# EAGLE library part HMC218BMS8GE (library HMC218BMSGE)
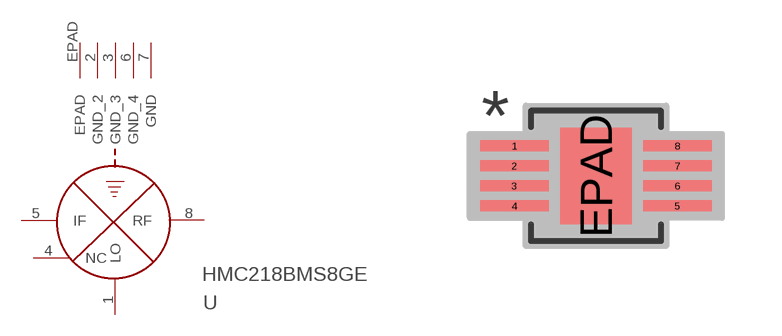
[diagram p0: symbol with the pads of HRH_8_1; footprint HRH_8_1]

Designator prefix U

## HMC218BMS8GE  [HRH_8_1]
1  LO  pas
2  GND_2  pas
3  GND_3  pas
4  NC  pas
5  IF  pas
6  GND_4  pas
7  GND  pas
8  RF  pas
EPAD  EPAD  pas

## Footprint HRH_8_1 (pad centres in mm)
smd 1.711 x 0.27: 1 -2.04,0.75; 2 -2.04,0.25; 3 -2.04,-0.25; 4 -2.04,-0.75; 5 2.04,-0.75; 6 2.04,-0.25; 7 2.04,0.25; 8 2.04,0.75
smd 1.78 x 2.41: EPAD 0,0